# EAGLE library part TCS230 (library tcs230)
TCS230 Sensor RGB Sensor
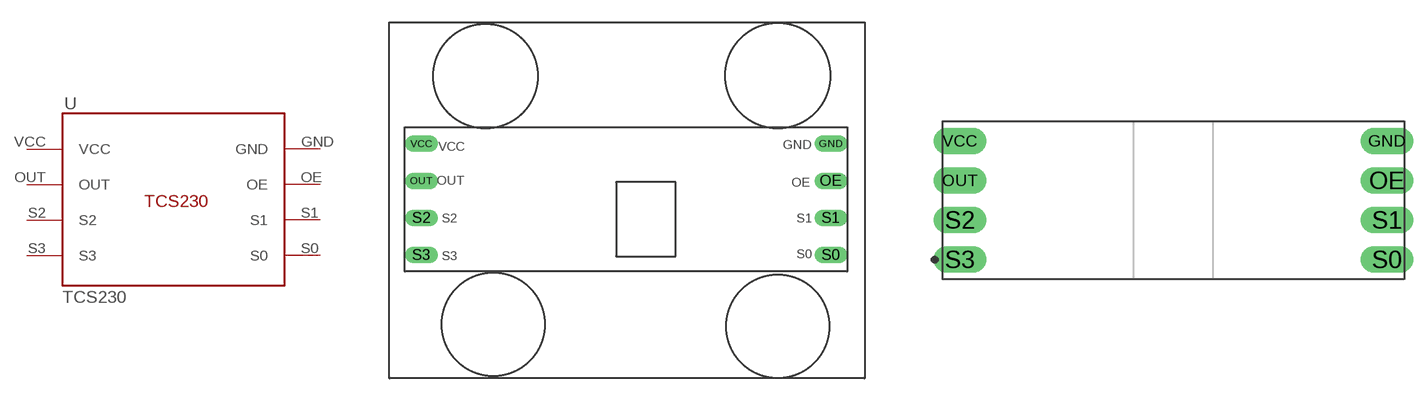
[diagram p0: symbol with the pads of TCS230; footprints TCS230, HDRV8W64P2740X254_2X4_1016X508X838B]

Designator prefix -

## TCS230  [TCS230]
GND  GND
OE  OE
OUT  OUT
S0  S0
S1  S1
S2  S2
S3  S3
VCC  VCC

## TCS230TCS230  [HDRV8W64P2740X254_2X4_1016X508X838B]
Pads as for TCS230

## Footprint TCS230 (pad centres in mm)
Footprint RGB Sensor TCS230
drill 0.6 long: GND 12.446,5.087; OE 12.446,2.587; OUT -15.114,2.587; S0 12.446,-2.413; S1 12.446,0.087; S2 -15.114,0.087; S3 -15.114,-2.413; VCC -15.113,5.08

## Footprint HDRV8W64P2740X254_2X4_1016X508X838B (pad centres in mm)
Double-row, 8-pin Pin Header (Male) Straight, 27.40 mm (1.08 in) row pitch, 2.54 mm (0.10 in) col pitch, 5.84 mm mating length, 10.16 X 5.08 X 8.38 mm body Double-row (2X4), 8-pin Pin Header (Male) Straight package with 27.40 mm (1.08 in) row pitch, 2.54 mm (0.10 in) col pitch, 0.64 mm lead width, 3.00 mm tail length and 5.84 mm mating length with overall size 10.16 X 5.08 X 8.38 mm, pin pattern - clockwise from top left
drill 1.105 pad 1.705 long: GND 14.7,-10.16; OE 14.7,-12.7; OUT -12.7,-12.7; S0 14.7,-17.78; S1 14.7,-15.24; S2 -12.7,-15.24; S3 -12.7,-17.78; VCC -12.7,-10.16